# Altium schematic symbol library Schlib1.SchLib: 22 symbols
Pins are listed as number, name and electrical type; pins without a type are passive.

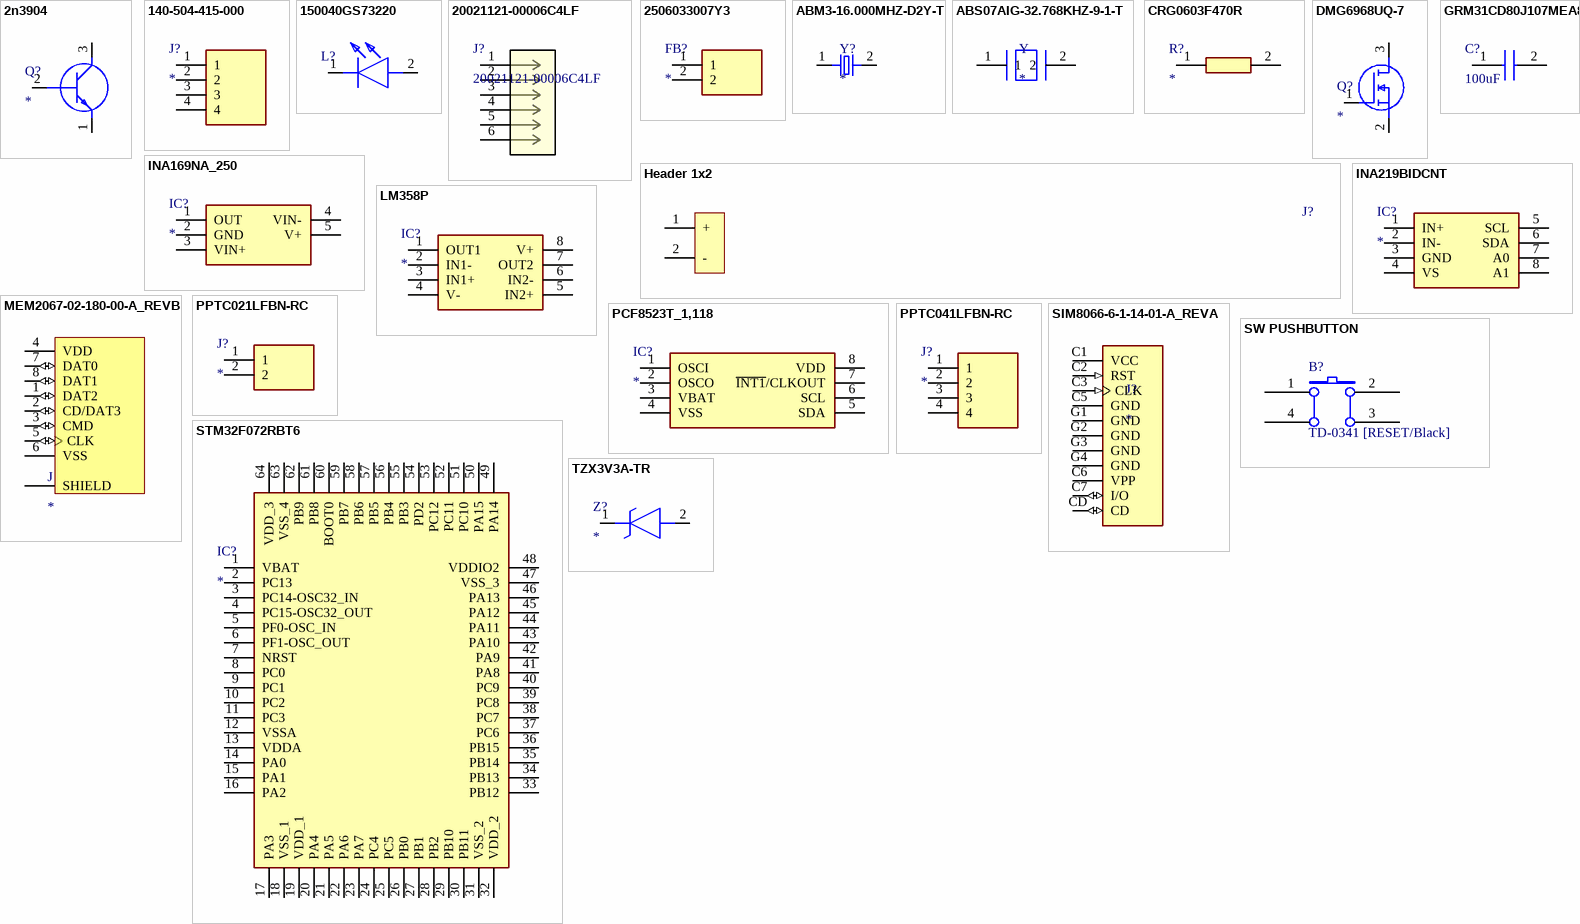
[diagram p0: symbols 2n3904 to TZX3V3A-TR]

## 2n3904
designator Q?
Transistor BJT NPN; Manufacturer_Name: STMicroelectronics; Manufacturer_Part_Number: 2n3904; Datasheet Link: https://datasheet.datasheetarchive.com/originals/distributors/Datasheets-5/DSA-93219.pdf; Mouser Part Number: 511-2N3904; Mouser Price/Stock: https://www.mouser.co.uk/ProductDetail/STMicroelectronics/2N3904?qs=ljbEvF4DwOMFlSOlAhVGRg%3D%3D
footprint TO-92
pins: 1 E, 2 B, 3 C

## 140-504-415-000
designator J?
Connector; Manufacturer_Name: EDAC; Manufacturer_Part_Number: 140-504-415-000; Datasheet Link: https://files.edac.net/edac/content/140/140-504-415-000%20-%20EDAC%20E-MATE%20(Pin%20Header)%20Connector.PDF; Height: 5.25mm; Mouser Part Number: 587-140-504-415-000; Mouser Price/Stock: https://www.mouser.co.uk/ProductDetail/EDAC/140-504-415-000?qs=zW32dvEIR3t2whP8kwSMKQ%3D%3D
footprint 140-504-415-smbus-header
pins: 1, 2, 3, 4

## 150040GS73220
designator L?, comment led  (value not drawn)
Manufacturer_Name: Wurth Elektronik; Manufacturer_Part_Number: 150040GS73220; Datasheet Link: https://www.mouser.com/datasheet/2/445/150040GS73220-1714597.pdf; Height: 0.35mm; Mouser Part Number: 710-150040GS73220; Mouser Price/Stock: https://www.mouser.co.uk/ProductDetail/Wurth-Elektronik/150040GS73220?qs=u16ybLDytRZ9vktXLUK1Kg%3D%3D; Category: LED
footprint LED0603G
pins: 1 K, 2 A

## 20021121-00006C4LF
designator J?
No Description Available; Mfr_Name: Amphenol ICC; Copyright: Copyright (C) 2022 Ultra Librarian. All rights reserved.; Manufacturer_Part_Number: 20021121-00006C4LF; RefDes: RefDes; Type: DEV
footprint CONN_20021121-00006C4LF_AMP-M
pins: 1, 2, 3, 4, 5, 6

## 2506033007Y3
designator FB?
Ferrite Bead; Manufacturer_Name: Fair-Rite; Manufacturer_Part_Number: 2506033007Y3; Datasheet Link: https://www.fair-rite.com/product/chip-beads-2506033007y3/; Height: 1.1mm; Mouser Part Number: 623-2506033007Y3; Mouser Price/Stock: https://www.mouser.co.uk/ProductDetail/Fair-Rite/2506033007Y3?qs=paL1wOLBYNf20sf8jiNk7A%3D%3D; Arrow Part Number: 2506033007Y3; Arrow Price/Stock: https://www.arrow.com/en/products/2506033007y3/fair-rite-products
footprint BEADC1608X110N
pins: 1, 2

## ABM3-16.000MHZ-D2Y-T
designator Y?
16MHz Â±20ppm Crystal 18pF 40 Ohms 2-SMD, No Lead; MP: ABM3-16.000MHZ-D2Y; MF: Abracon; SnapEDA_Link: https://www.snapeda.com/parts/ABM3-16.000MHZ-D2Y/Abracon/view-part/1217081/?ref=snap; Availability: Unavailable; Package: SMD-2 Abracon; Price: None; Value: *
footprint XTAL500X320X130N
pins: 1, 2

## ABS07AIG-32.768KHZ-9-1-T
designator Y
32.768kHz Â±10ppm Crystal 9pF 80 kOhms 2-SMD, No Lead; MP: ABS07AIG-32.768KHZ-9-1-T; MF: Abracon; Package: SMD-2 Abracon; SnapEDA_Link: https://www.snapeda.com/parts/ABS07AIG-32.768KHZ-9-1-T/Abracon%20LLC/view-part/588516/?ref=snap; Price: None; Value: *; Availability: Unavailable
footprint XTAL320X150X90
pins: 1, 2

## CRG0603F470R
designator R?
Resistor; Manufacturer_Name: TE Connectivity; Manufacturer_Part_Number: CRG0603F470R; Datasheet Link: https://datasheet.datasheetarchive.com/originals/distributors/DKDS-21/401698.pdf; Height: 0.55mm; Mouser Part Number: 279-CRG0603F470R; Mouser Price/Stock: https://www.mouser.co.uk/ProductDetail/TE-Connectivity-Holsworthy/CRG0603F470R?qs=VHcS2MTj4gZ9vO%2FWGoSTFA%3D%3D; Arrow Part Number: CRG0603F470R; Arrow Price/Stock: https://www.arrow.com/en/products/crg0603f470r/te-connectivity?region=nac
footprint RESC1608X55N
pins: 1, 2

## DMG6968UQ-7
designator Q?
MOSFET (N-Channel); Manufacturer_Name: Diodes Inc.; Manufacturer_Part_Number: DMG6968UQ-7; Datasheet Link: https://www.arrow.com/en/products/dmg6968uq-7/diodes-incorporated; Height: 1mm; Mouser Part Number: 621-DMG6968UQ-7; Mouser Price/Stock: https://www.mouser.co.uk/ProductDetail/Diodes-Incorporated/DMG6968UQ-7?qs=MNIFWdyJgboErGB0%2FFpP4Q%3D%3D; Arrow Part Number: DMG6968UQ-7; Arrow Price/Stock: https://www.arrow.com/en/products/dmg6968uq-7/diodes-incorporated
footprint SOT96P240X100-3N
pins: 1 G, 2 S, 3 D

## GRM31CD80J107MEA8L
designator C?, comment 100uF
Capacitor; Manufacturer_Name: Murata Electronics; Manufacturer_Part_Number: GRM31CD80J107MEA8L; Height: 1.8mm; Mouser Part Number: 81-GRM31CD80J107MA8L; Mouser Price/Stock: https://www.mouser.co.uk/ProductDetail/Murata-Electronics/GRM31CD80J107MEA8L?qs=DPoM0jnrROWnWfPYsqocbw%3D%3D
footprint CAPC3216X180N
pins: 1, 2

## Header 1x2
designator J?, comment 1x2 Header  (value not drawn)
Connectors, Interconnects / Rectangular Connectors - Headers, Male Pins; Categorty: Connectors
footprint HDR1X2
pins: 1 +, 2 -

## INA169NA_250
designator IC?
Integrated Circuit; Manufacturer_Name: Texas Instruments; Manufacturer_Part_Number: INA169NA/250; Datasheet Link: http://www.ti.com/lit/ds/symlink/ina169.pdf; Height: 1.45mm; Mouser Part Number: 595-INA169NA/250; Mouser Price/Stock: https://www.mouser.co.uk/ProductDetail/Texas-Instruments/INA169NA-250?qs=VBduBm9rCJRhyFEvciwlCg%3D%3D; Arrow Part Number: INA169NA/250; Arrow Price/Stock: https://www.arrow.com/en/products/ina169na250/texas-instruments?region=nac
footprint SOT95P280X145-5N
pins: 1 OUT, 2 GND, 3 VIN+, 4 VIN-, 5 V+

## INA219BIDCNT
designator IC?
Integrated Circuit; Manufacturer_Name: Texas Instruments; Manufacturer_Part_Number: INA219BIDCNT; Datasheet Link: http://www.ti.com/lit/ds/symlink/ina219.pdf; Height: 1.45mm; Mouser Part Number: 595-INA219BIDCNT; Mouser Price/Stock: https://www.mouser.co.uk/ProductDetail/Texas-Instruments/INA219BIDCNT?qs=1WmUhT%2FVMIMmEKxVjzYikA%3D%3D; Arrow Part Number: INA219BIDCNT; Arrow Price/Stock: https://www.arrow.com/en/products/ina219bidcnt/texas-instruments?region=nac
footprint SOT65P280X145-8N
pins: 1 IN+, 2 IN-, 3 GND, 4 VS, 5 SCL, 6 SDA, 7 A0, 8 A1

## LM358P
designator IC?
Integrated Circuit; Manufacturer_Name: Texas Instruments; Description: LM358P; Datasheet Link: http://www.ti.com/lit/ds/symlink/lm358a.pdf; Height: 5.08mm; Manufacturer_Part_Number: LM358P; Mouser Part Number: 595-LM358P; Mouser Price/Stock: https://www.mouser.co.uk/ProductDetail/Texas-Instruments/LM358P?qs=X1HXWTtiZ0QtOTT8%252BVnsyw%3D%3D; Arrow Part Number: LM358P; Arrow Price/Stock: https://www.arrow.com/en/products/lm358p/texas-instruments?region=nac
footprint DIP794W53P254L959H508Q8N
pins: 1 OUT1, 2 IN1-, 3 IN1+, 4 V-, 5 IN2+, 6 IN2-, 7 OUT2, 8 V+

## MEM2067-02-180-00-A_REVB
designator J
8 Position Card Connector microSDâ„¢ Surface Mount, Right Angle Gold; MF: Global Connector Technology; MP: MEM2067-02-180-00-A; Package: None; Value: *; Price: None; SnapEDA_Link: https://www.snapeda.com/parts/MEM2067-02-180-00-A/Global%20Connector%20Technology/view-part/779218/?ref=snap; Availability: Unavailable
footprint GCT_MEM2067-02-180-00-A_REVB
pins: 1 DAT2 (io), 2 CD/DAT3 (io), 3 CMD (io), 4 VDD (power), 5 CLK (io), 6 VSS (power), 7 DAT0 (io), 8 DAT1 (io), 9 SHIELD, 10 SHIELD, 11 SHIELD, 12 SHIELD

## PCF8523T_1,118
designator IC?
Integrated Circuit; Manufacturer_Name: NXP; Manufacturer_Part_Number: PCF8523T/1,118; Datasheet Link: http://www.nxp.com/docs/en/data-sheet/PCF8523.pdf; Height: 1.75mm; Mouser Part Number: 771-PCF8523T/1118; Mouser Price/Stock: https://www.mouser.co.uk/ProductDetail/NXP-Semiconductors/PCF8523T-1118?qs=beN0Cyoe8YmmXShRMIPCwg%3D%3D; Arrow Part Number: PCF8523T/1,118; Arrow Price/Stock: https://www.arrow.com/en/products/pcf8523t1118/nxp-semiconductors?region=nac
footprint SOIC127P600X175-8N
pins: 1 OSCI, 2 OSCO, 3 VBAT, 4 VSS, 5 SDA, 6 SCL, 7 ~{INT1}/CLKOUT, 8 VDD

## PPTC021LFBN-RC
designator J?
Connector; Manufacturer_Name: Sullins; Manufacturer_Part_Number: PPTC021LFBN-RC; Datasheet Link: http://www.sullinscorp.com/drawings/78_P(N)PxCxxxLFBN-RC,_10492-H.pdf; Height: 8.5mm
footprint RHDR2W80P0X254_1X2_558X254X850P
pins: 1, 2

## PPTC041LFBN-RC
designator J?
Connector; Manufacturer_Name: Sullins; Manufacturer_Part_Number: PPTC041LFBN-RC; Datasheet Link: http://www.sullinscorp.com/drawings/78_P(N)PxCxxxLFBN-RC,_10492-H.pdf; Height: 8.5mm
footprint RHDR4W80P0X254_1X4_1066X254X850P
pins: 1, 2, 3, 4

## SIM8066-6-1-14-01-A_REVA
designator J?
Nano SIM Card ConnectorPush-Push Type, SMT, 6Pin, 1.44mm Profile; MF: Global Connector Technology; MP: SIM8066-6-1-14-01-A; SnapEDA_Link: https://www.snapeda.com/parts/SIM8066-6-1-14-01-A/Global%20Connector%20Technology/view-part/5720957/?ref=snap; Value: *; Package: None; Check_prices: https://www.snapeda.com/parts/SIM8066-6-1-14-01-A/Global%20Connector%20Technology/view-part/5720957/?ref=eda; Price: None; Availability: Unavailable
footprint GCT_SIM8066-6-1-14-01-A_REVA
pins: C1 VCC (power), C2 RST (in), C3 CLK (in), C5 GND (power), C6 VPP (power), C7 I/O (io), CD (io), G1 GND (power), G2 GND (power), G3 GND (power), G4 GND (power)

## STM32F072RBT6
designator IC?
Integrated Circuit; Manufacturer_Name: STMicroelectronics; Manufacturer_Part_Number: STM32F072RBT6; Datasheet Link: http://www.st.com/st-web-ui/static/active/en/resource/technical/document/datasheet/DM00090510.pdf; Height: 1.6mm; Mouser Part Number: 511-STM32F072RBT6; Mouser Price/Stock: https://www.mouser.co.uk/ProductDetail/STMicroelectronics/STM32F072RBT6?qs=xf9JV0PLFEcuk6sTlnutaw%3D%3D; Arrow Part Number: STM32F072RBT6; Arrow Price/Stock: https://www.arrow.com/en/products/stm32f072rbt6/stmicroelectronics
footprint QFP50P1200X1200X160-64N
pins: 1 VBAT, 2 PC13, 3 PC14-OSC32_IN, 4 PC15-OSC32_OUT, 5 PF0-OSC_IN, 6 PF1-OSC_OUT, 7 NRST, 8 PC0, 9 PC1, 10 PC2, 11 PC3, 12 VSSA, 13 VDDA, 14 PA0, 15 PA1, 16 PA2, 17 PA3, 18 VSS_1, 19 VDD_1, 20 PA4, 21 PA5, 22 PA6, 23 PA7, 24 PC4, 25 PC5, 26 PB0, 27 PB1, 28 PB2, 29 PB10, 30 PB11, 31 VSS_2, 32 VDD_2, 33 PB12, 34 PB13, 35 PB14, 36 PB15, 37 PC6, 38 PC7, 39 PC8, 40 PC9, 41 PA8, 42 PA9, 43 PA10, 44 PA11, 45 PA12, 46 PA13, 47 VSS_3, 48 VDDIO2, 49 PA14, 50 PA15, 51 PC10, 52 PC11, 53 PC12, 54 PD2, 55 PB3, 56 PB4, 57 PB5, 58 PB6, 59 PB7, 60 BOOT0, 61 PB8, 62 PB9, 63 VSS_4, 64 VDD_3

## SW PUSHBUTTON
designator B?, comment TD-0341 [RESET/Black]
SE PUSHBUTTON
pins: 1 A0, 2 B0, 3 B1, 4 A1

## TZX3V3A-TR
designator Z?
Zener Diode; Manufacturer_Name: Vishay; Manufacturer_Part_Number: TZX3V3A-TR; Datasheet Link: https://componentsearchengine.com/Datasheets/1/TZX3V3A-TR.pdf; Mouser Part Number: 78-TZX3V3A; Mouser Price/Stock: https://www.mouser.com/Search/Refine.aspx?Keyword=78-TZX3V3A
footprint DIOAD950W60L350D150
pins: 1 K, 2 A